# Altium schematic symbol library STM32.SchLib: 16 symbols
Pins are listed as number, name and electrical type; pins without a type are passive.

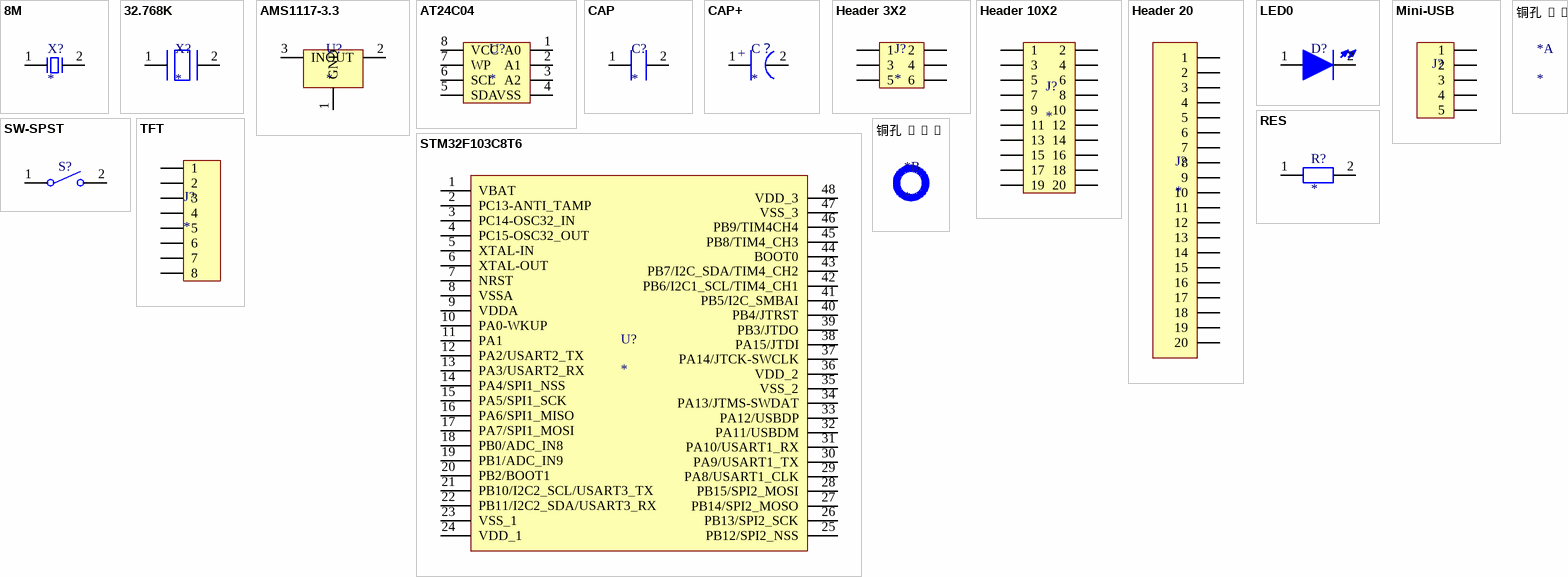
[diagram p0: symbols 8M to 铜孔]

## 8M
designator X?
footprint JZ49S
simulation model Model Name (Model Description)
pins: 1, 2

## 32.768K
designator X?
footprint JZ32768
simulation model Model Name (Model Description)
pins: 1, 2

## AMS1117-3.3
designator U?
IC
footprint SOT223 (SOT223, 4-Leads, Body 6.20x7.00mm (avg), Pitch 2.30mm, IPC Medium Density)
pins: 1 GND, 2 OUT, 3 IN

## AT24C04
designator U?
IC
footprint SOIC-8 (SOIC, 8-Leads, Body 4.90x3.90mm, Pitch 1.27mm, Thermal Pad 2.29x2.29mm, IPC Medium Density)
pins: 1 A0, 2 A1, 3 A2, 4 VSS, 5 SDA, 6 SCL, 7 WP, 8 VCC

## CAP
designator C?
电容
footprint 0805
footprint RC0603
pins: 1, 2

## CAP+
designator C？
极性电容
footprint RC0603
footprint 0805
pins: 1, 2
text: +

## Header 3X2
designator J?
footprint H-3X2
pins: 1, 2, 3, 4, 5, 6

## Header 10X2
designator J?
footprint JTAG_20P
pins: 1, 2, 3, 4, 5, 6, 7, 8, 9, 10, 11, 12, 13, 14, 15, 16, 17, 18, 19, 20

## Header 20
designator J?
footprint H 20
pins: 1, 2, 3, 4, 5, 6, 7, 8, 9, 10, 11, 12, 13, 14, 15, 16, 17, 18, 19, 20

## LED0
designator D?  (value not drawn)
LED
footprint LED0805
pins: 1, 2

## Mini-USB
designator J?  (value not drawn)
footprint mini_USB
pins: 1, 2, 3, 4, 5

## RES
designator R?
电阻
footprint 0805
footprint RC0603
pins: 1, 2

## STM32F103C8T6
designator U?
IC
footprint LQFP48
pins: 1 VBAT, 2 PC13-ANTI_TAMP, 3 PC14-OSC32_IN, 4 PC15-OSC32_OUT, 5 XTAL-IN, 6 XTAL-OUT, 7 NRST, 8 VSSA, 9 VDDA, 10 PA0-WKUP, 11 PA1, 12 PA2/USART2_TX, 13 PA3/USART2_RX, 14 PA4/SPI1_NSS, 15 PA5/SPI1_SCK, 16 PA6/SPI1_MISO, 17 PA7/SPI1_MOSI, 18 PB0/ADC_IN8, 19 PB1/ADC_IN9, 20 PB2/BOOT1, 21 PB10/I2C2_SCL/USART3_TX, 22 PB11/I2C2_SDA/USART3_RX, 23 VSS_1, 24 VDD_1, 25 PB12/SPI2_NSS, 26 PB13/SPI2_SCK, 27 PB14/SPI2_MOSO, 28 PB15/SPI2_MOSI, 29 PA8/USART1_CLK, 30 PA9/USART1_TX, 31 PA10/USART1_RX, 32 PA11/USBDM, 33 PA12/USBDP, 34 PA13/JTMS-SWDAT, 35 VSS_2, 36 VDD_2, 37 PA14/JTCK-SWCLK, 38 PA15/JTDI, 39 PB3/JTDO, 40 PB4/JTRST, 41 PB5/I2C_SMBAI, 42 PB6/I2C1_SCL/TIM4_CH1, 43 PB7/I2C_SDA/TIM4_CH2, 44 BOOT0, 45 PB8/TIM4_CH3, 46 PB9/TIM4CH4, 47 VSS_3, 48 VDD_3

## SW-SPST
designator S?  (value not drawn)
开关
footprint SMT-KEY
pins: 1, 2

## TFT
designator J?
footprint H-8
pins: 1, 2, 3, 4, 5, 6, 7, 8

## 铜孔
designator *